# Altium footprint library PcbLib1.PcbLib: 4 footprints
Each footprint in its own frame and in the unit in brackets; x right, y up, seen from the top. Pads: shape width x height; smd on the part's side, far side on the other; paste and mask are expansions set on the pad; w line width, h text height; cw(c..) or ccw(c..) is an arc to the next point about the centre after c.
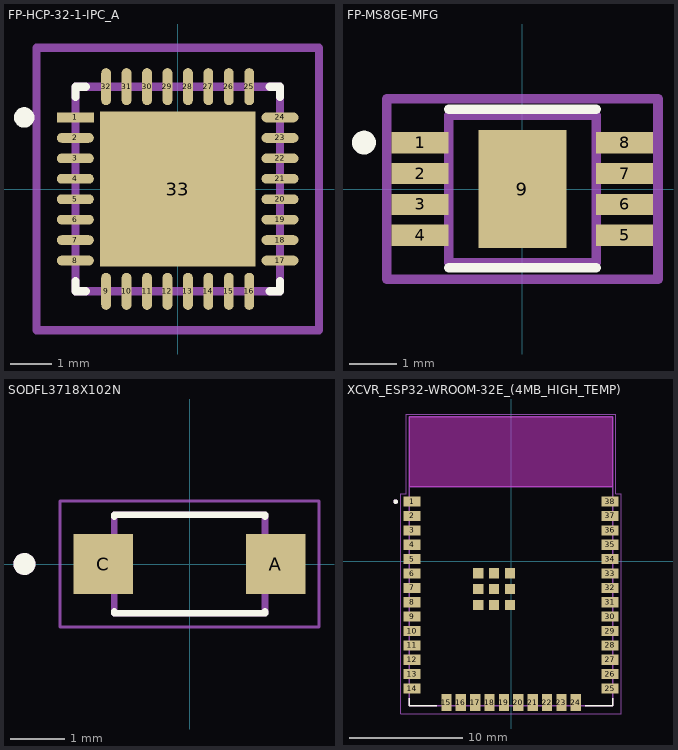
[diagram p0: the footprints below, top view; thin cyan lines are the x and y axes]

## FP-HCP-32-1-IPC_A [mm]
pads (33):
  rect 0.906x0.239 smd paste+0 mask+0: 1(-2.503,1.75)
  rrect100% 0.906x0.239 smd paste+0 mask+0: 2(-2.503,1.25) 3(-2.503,0.75) 4(-2.503,0.25) 5(-2.503,-0.25) 6(-2.503,-0.75) 7(-2.503,-1.25) 8(-2.503,-1.75) 17(2.503,-1.75) 18(2.503,-1.25) 19(2.503,-0.75) 20(2.503,-0.25) 21(2.503,0.25) 22(2.503,0.75) 23(2.503,1.25) 24(2.503,1.75)
  rrect100% 0.239x0.906 smd paste+0 mask+0: 9(-1.75,-2.503) 10(-1.25,-2.503) 11(-0.75,-2.503) 12(-0.25,-2.503) 13(0.25,-2.503) 14(0.75,-2.503) 15(1.25,-2.503) 16(1.75,-2.503) 25(1.75,2.503) 26(1.25,2.503) 27(0.75,2.503) 28(0.25,2.503) 29(-0.25,2.503) 30(-0.75,2.503) 31(-1.25,2.503) 32(-1.75,2.503)
  rect 3.8x3.8 smd paste-1000 mask+0: 33(0,0)
Top Overlay:
  circle w0.25: c-3.756,1.75 r0.125
  lines w0.2: -2.5,-2.25 -2.5,-2.5 -2.25,-2.5 ; -2.5,2.25 -2.5,2.5 -2.25,2.5 ; 2.25,-2.5 2.5,-2.5 2.5,-2.25 ; 2.25,2.5 2.5,2.5 2.5,2.25
Top Paste:
  rectangle: -1.202,-1.202 1.202,1.202
Top Assembly:
  lines w0.2: -3.456,-3.456 3.456,-3.456 3.456,3.456 -3.456,3.456 -3.456,-3.456
  text ".Designator" at 0,0.188 h1
Top 3D Body:
  lines w0.2: -2.5,-2.5 2.5,-2.5 2.5,2.5 -2.5,2.5 -2.5,-2.5
Top Courtyard:
  lines w0.2: -3.456,-3.456 3.456,-3.456 3.456,3.456 -3.456,3.456 -3.456,-3.456
Top Component Center:
  lines w0.1: -0.5,0 0.5,0 ; 0,-0.5 0,0.5
3D body "IC_Analog_Devices_HMC509LP5E_eec.STEP": height 0.25, standoff 0, extent -3.456,-3.456 3.456,3.456

## FP-MS8GE-MFG [mm]
pads (9):
  rect 1.2x0.45 smd paste+0 mask+0: 1(-2.15,0.975) 2(-2.15,0.325) 3(-2.15,-0.325) 4(-2.15,-0.975) 5(2.15,-0.975) 6(2.15,-0.325) 7(2.15,0.325) 8(2.15,0.975)
  rect 1.85x2.49 smd paste+0 mask+0: 9(0,0)
Top Overlay:
  circle w0.25: c-3.329,0.975 r0.125
  lines w0.2: -1.55,-1.65 1.55,-1.65 ; -1.55,1.675 1.55,1.675
Top Assembly:
  lines w0.2: -2.85,-1.9 2.85,-1.9 2.85,1.9 -2.85,1.9 -2.85,-1.9
  text ".Designator" at 0,-0.001 h1
Top 3D Body:
  lines w0.2: -1.55,-1.55 1.55,-1.55 1.55,1.55 -1.55,1.55 -1.55,-1.55
Top Courtyard:
  lines w0.2: -2.85,-1.9 2.85,-1.9 2.85,1.9 -2.85,1.9 -2.85,-1.9
Top Component Center:
  lines w0.1: -0.5,0 0.5,0 ; 0,-0.5 0,0.5
3D body "IC_Analog_Devices_HMC270AMS8GE_eec.STEP": height 0.25, standoff 0, extent -2.85,-1.9 2.85,1.9

## SODFL3718X102N [mm]
height 1.02
pads (2):
  rect 1.08x1.09 smd: A(1.575,0) C(-1.575,0)
Top Overlay:
  circle w0.2: c-3.015,0 r0.1
  lines w0.127: -1.375,-0.865 -1.375,-0.9 1.375,-0.9 1.375,-0.865 ; -1.375,0.865 -1.375,0.9 1.375,0.9 1.375,0.865
Top 3D Body:
  circle w0.2: c-3.015,0 r0.1
  lines w0.127: -1.375,-0.9 1.375,-0.9 1.375,0.9 -1.375,0.9 -1.375,-0.9
Top Courtyard:
  lines w0.05: -2.365,-1.15 2.365,-1.15 2.365,1.15 -2.365,1.15 -2.365,-1.15
3D body "step_temp.STEP": height 1.02, standoff 0, extent -1.85,-0.9 1.85,0.9

## XCVR_ESP32-WROOM-32E_(4MB_HIGH_TEMP) [mm]
pads (47):
  rect 1.5x0.9 smd: 1(-8.75,5.26) 2(-8.75,3.99) 3(-8.75,2.72) 4(-8.75,1.45) 5(-8.75,0.18) 6(-8.75,-1.09) 7(-8.75,-2.36) 8(-8.75,-3.63) 9(-8.75,-4.9) 10(-8.75,-6.17) 11(-8.75,-7.44) 12(-8.75,-8.71) 13(-8.75,-9.98) 14(-8.75,-11.25) 25(8.75,-11.25) 26(8.75,-9.98) 27(8.75,-8.71) 28(8.75,-7.44) 29(8.75,-6.17) 30(8.75,-4.9) 31(8.75,-3.63) 32(8.75,-2.36) 33(8.75,-1.09) 34(8.75,0.18) 35(8.75,1.45) 36(8.75,2.72) 37(8.75,3.99) 38(8.75,5.26)
  rect 0.9x1.5 smd: 15(-5.715,-12.5) 16(-4.445,-12.5) 17(-3.175,-12.5) 18(-1.905,-12.5) 19(-0.635,-12.5) 20(0.635,-12.5) 21(1.905,-12.5) 22(3.175,-12.5) 23(4.445,-12.5) 24(5.715,-12.5)
  rect 0.9x0.9 smd: 39_1(-2.9,-1.06) 39_2(-1.5,-1.06) 39_3(-0.1,-1.06) 39_4(-2.9,-2.46) 39_5(-1.5,-2.46) 39_6(-0.1,-2.46) 39_7(-2.9,-3.86) 39_8(-1.5,-3.86) 39_9(-0.1,-3.86)
Top Overlay:
  circle w0.2: c-10.2,5.26 r0.1
  lines w0.127: -9,-12.1 -9,-12.75 -6.55,-12.75 ; 6.55,-12.75 9,-12.75 9,-12.1
Keep-Out Layer:
  region: 9,6.56 -9,6.56 -9,12.75 9,12.75
Top 3D Body:
  circle w0.2: c-10.2,5.26 r0.1
  lines w0.127: -9,6.56 9,6.56 ; -9,6.56 -9,12.75 9,12.75 9,6.56 ; -9,6.56 -9,-12.75 9,-12.75 9,6.56
  text "ANTENNA" at -6,9 h1.78
Top Courtyard:
  lines w0.05: -9.75,-13.5 -9.75,5.96 -9.25,5.96 -9.25,13 9.25,13 9.25,5.96 9.75,5.96 9.75,-13.5 -9.75,-13.5
3D body "step_temp.STEP": height 3.25, standoff 0, extent -9,-12.75 9,12.75